# Altium schematic symbol library 09_Connector.SchLib: 62 symbols
Pins are listed as number, name and electrical type; pins without a type are passive.

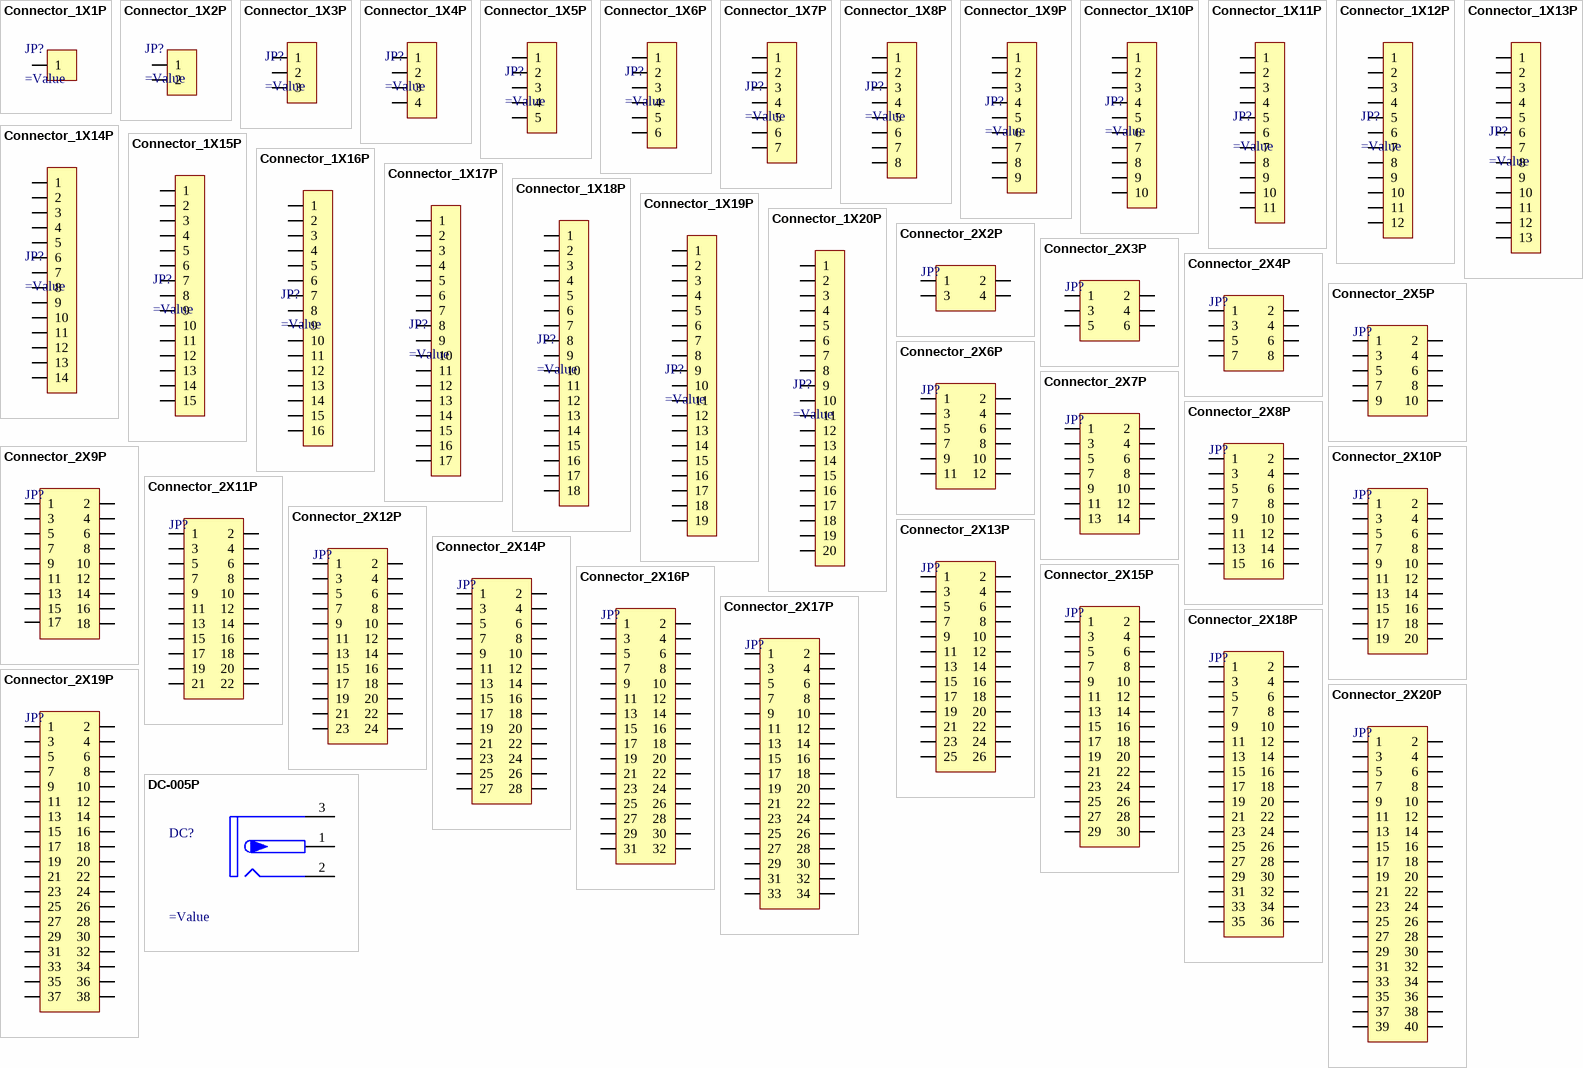
[diagram p0: symbols Connector_1X1P to DC-005P]

## Connector_1X1P
designator JP?
1X1P连接器（排针、排母、接线端子）
pins: 1

## Connector_1X2P
designator JP?
1X2P连接器（排针、排母、接线端子）
pins: 1, 2

## Connector_1X3P
designator JP?
1X3P连接器（排针、排母、接线端子）
pins: 1, 2, 3

## Connector_1X4P
designator JP?
1X4P连接器（排针、排母、接线端子）
pins: 1, 2, 3, 4

## Connector_1X5P
designator JP?
1X5P连接器（排针、排母、接线端子）
pins: 1, 2, 3, 4, 5

## Connector_1X6P
designator JP?
1X6P连接器（排针、排母、接线端子）
pins: 1, 2, 3, 4, 5, 6

## Connector_1X7P
designator JP?
1X7P连接器（排针、排母、接线端子）
pins: 1, 2, 3, 4, 5, 6, 7

## Connector_1X8P
designator JP?
1X8P连接器（排针、排母、接线端子）
pins: 1, 2, 3, 4, 5, 6, 7, 8

## Connector_1X9P
designator JP?
1X9P连接器（排针、排母、接线端子）
pins: 1, 2, 3, 4, 5, 6, 7, 8, 9

## Connector_1X10P
designator JP?
1X10P连接器（排针、排母、接线端子）
pins: 1, 2, 3, 4, 5, 6, 7, 8, 9, 10

## Connector_1X11P
designator JP?
1X11P连接器（排针、排母、接线端子）
pins: 1, 2, 3, 4, 5, 6, 7, 8, 9, 10, 11

## Connector_1X12P
designator JP?
1X12P连接器（排针、排母、接线端子）
pins: 1, 2, 3, 4, 5, 6, 7, 8, 9, 10, 11, 12

## Connector_1X13P
designator JP?
1X13P连接器（排针、排母、接线端子）
pins: 1, 2, 3, 4, 5, 6, 7, 8, 9, 10, 11, 12, 13

## Connector_1X14P
designator JP?
1X14P连接器（排针、排母、接线端子）
pins: 1, 2, 3, 4, 5, 6, 7, 8, 9, 10, 11, 12, 13, 14

## Connector_1X15P
designator JP?
1X15P连接器（排针、排母、接线端子）
pins: 1, 2, 3, 4, 5, 6, 7, 8, 9, 10, 11, 12, 13, 14, 15

## Connector_1X16P
designator JP?
1X16P连接器（排针、排母、接线端子）
pins: 1, 2, 3, 4, 5, 6, 7, 8, 9, 10, 11, 12, 13, 14, 15, 16

## Connector_1X17P
designator JP?
1X17P连接器（排针、排母、接线端子）
pins: 1, 2, 3, 4, 5, 6, 7, 8, 9, 10, 11, 12, 13, 14, 15, 16, 17

## Connector_1X18P
designator JP?
1X18P连接器（排针、排母、接线端子）
pins: 1, 2, 3, 4, 5, 6, 7, 8, 9, 10, 11, 12, 13, 14, 15, 16, 17, 18

## Connector_1X19P
designator JP?
1X19P连接器（排针、排母、接线端子）
pins: 1, 2, 3, 4, 5, 6, 7, 8, 9, 10, 11, 12, 13, 14, 15, 16, 17, 18, 19

## Connector_1X20P
designator JP?
1X20P连接器（排针、排母、接线端子）
pins: 1, 2, 3, 4, 5, 6, 7, 8, 9, 10, 11, 12, 13, 14, 15, 16, 17, 18, 19, 20

## Connector_2X2P
designator JP?
2X2P连接器（排针、排母、接线端子）
pins: 1, 2, 3, 4

## Connector_2X3P
designator JP?
2X3P连接器（排针、排母、接线端子）
pins: 1, 2, 3, 4, 5, 6

## Connector_2X4P
designator JP?
2X4P连接器（排针、排母、接线端子）
pins: 1, 2, 3, 4, 5, 6, 7, 8

## Connector_2X5P
designator JP?
2X5P连接器（排针、排母、接线端子）
pins: 1, 2, 3, 4, 5, 6, 7, 8, 9, 10

## Connector_2X6P
designator JP?
2X6P连接器（排针、排母、接线端子）
pins: 1, 2, 3, 4, 5, 6, 7, 8, 9, 10, 11, 12

## Connector_2X7P
designator JP?
2X7P连接器（排针、排母、接线端子）
pins: 1, 2, 3, 4, 5, 6, 7, 8, 9, 10, 11, 12, 13, 14

## Connector_2X8P
designator JP?
2X8P连接器（排针、排母、接线端子）
pins: 1, 2, 3, 4, 5, 6, 7, 8, 9, 10, 11, 12, 13, 14, 15, 16

## Connector_2X9P
designator JP?
2X9P连接器（排针、排母、接线端子）
pins: 1, 2, 3, 4, 5, 6, 7, 8, 9, 10, 11, 12, 13, 14, 15, 16, 17, 18

## Connector_2X10P
designator JP?
2X10P连接器（排针、排母、接线端子）
pins: 1, 2, 3, 4, 5, 6, 7, 8, 9, 10, 11, 12, 13, 14, 15, 16, 17, 18, 19, 20

## Connector_2X11P
designator JP?
2X11P连接器（排针、排母、接线端子）
pins: 1, 2, 3, 4, 5, 6, 7, 8, 9, 10, 11, 12, 13, 14, 15, 16, 17, 18, 19, 20, 21, 22

## Connector_2X12P
designator JP?
2X12P连接器（排针、排母、接线端子）
pins: 1, 2, 3, 4, 5, 6, 7, 8, 9, 10, 11, 12, 13, 14, 15, 16, 17, 18, 19, 20, 21, 22, 23, 24

## Connector_2X13P
designator JP?
2X13P连接器（排针、排母、接线端子）
pins: 1, 2, 3, 4, 5, 6, 7, 8, 9, 10, 11, 12, 13, 14, 15, 16, 17, 18, 19, 20, 21, 22, 23, 24, 25, 26

## Connector_2X14P
designator JP?
2X14P连接器（排针、排母、接线端子）
pins: 1, 2, 3, 4, 5, 6, 7, 8, 9, 10, 11, 12, 13, 14, 15, 16, 17, 18, 19, 20, 21, 22, 23, 24, 25, 26, 27, 28

## Connector_2X15P
designator JP?
2X15P连接器（排针、排母、接线端子）
pins: 1, 2, 3, 4, 5, 6, 7, 8, 9, 10, 11, 12, 13, 14, 15, 16, 17, 18, 19, 20, 21, 22, 23, 24, 25, 26, 27, 28, 29, 30

## Connector_2X16P
designator JP?
2X16P连接器（排针、排母、接线端子）
pins: 1, 2, 3, 4, 5, 6, 7, 8, 9, 10, 11, 12, 13, 14, 15, 16, 17, 18, 19, 20, 21, 22, 23, 24, 25, 26, 27, 28, 29, 30, 31, 32

## Connector_2X17P
designator JP?
2X17P连接器（排针、排母、接线端子）
pins: 1, 2, 3, 4, 5, 6, 7, 8, 9, 10, 11, 12, 13, 14, 15, 16, 17, 18, 19, 20, 21, 22, 23, 24, 25, 26, 27, 28, 29, 30, 31, 32, 33, 34

## Connector_2X18P
designator JP?
2X18P连接器（排针、排母、接线端子）
pins: 1, 2, 3, 4, 5, 6, 7, 8, 9, 10, 11, 12, 13, 14, 15, 16, 17, 18, 19, 20, 21, 22, 23, 24, 25, 26, 27, 28, 29, 30, 31, 32, 33, 34, 35, 36

## Connector_2X19P
designator JP?
2X19P连接器（排针、排母、接线端子）
pins: 1, 2, 3, 4, 5, 6, 7, 8, 9, 10, 11, 12, 13, 14, 15, 16, 17, 18, 19, 20, 21, 22, 23, 24, 25, 26, 27, 28, 29, 30, 31, 32, 33, 34, 35, 36, 37, 38

## Connector_2X20P
designator JP?
2X20P连接器（排针、排母、接线端子）
pins: 1, 2, 3, 4, 5, 6, 7, 8, 9, 10, 11, 12, 13, 14, 15, 16, 17, 18, 19, 20, 21, 22, 23, 24, 25, 26, 27, 28, 29, 30, 31, 32, 33, 34, 35, 36, 37, 38, 39, 40

## DC-005P
designator DC?
DC-005电源接口座
pins: 1 (power), 2 (power), 3 (power)

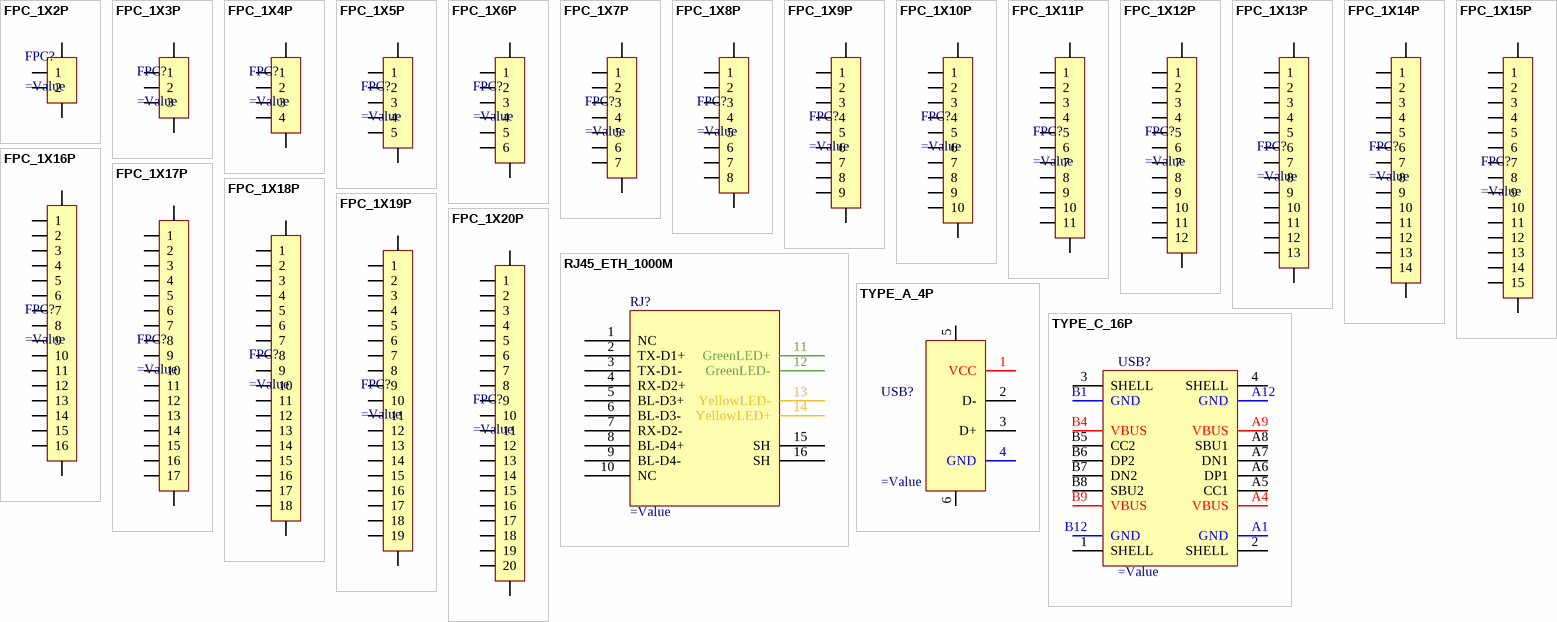
[diagram p1: symbols FPC_1X2P to TYPE_C_16P]

## FPC_1X2P
designator FPC?
1X2P-FPC连接器
pins: 0, 0, 1, 2

## FPC_1X3P
designator FPC?
1X3P-FPC连接器
pins: 0, 0, 1, 2, 3

## FPC_1X4P
designator FPC?
1X4P-FPC连接器
pins: 0, 0, 1, 2, 3, 4

## FPC_1X5P
designator FPC?
1X5P-FPC连接器
pins: 0, 0, 1, 2, 3, 4, 5

## FPC_1X6P
designator FPC?
1X6P-FPC连接器
pins: 0, 0, 1, 2, 3, 4, 5, 6

## FPC_1X7P
designator FPC?
1X7P-FPC连接器
pins: 0, 0, 1, 2, 3, 4, 5, 6, 7

## FPC_1X8P
designator FPC?
1X8P-FPC连接器
pins: 0, 0, 1, 2, 3, 4, 5, 6, 7, 8

## FPC_1X9P
designator FPC?
1X9P-FPC连接器
pins: 0, 0, 1, 2, 3, 4, 5, 6, 7, 8, 9

## FPC_1X10P
designator FPC?
1X10P-FPC连接器
pins: 0, 0, 1, 2, 3, 4, 5, 6, 7, 8, 9, 10

## FPC_1X11P
designator FPC?
1X11P-FPC连接器
pins: 0, 0, 1, 2, 3, 4, 5, 6, 7, 8, 9, 10, 11

## FPC_1X12P
designator FPC?
1X12P-FPC连接器
pins: 0, 0, 1, 2, 3, 4, 5, 6, 7, 8, 9, 10, 11, 12

## FPC_1X13P
designator FPC?
1X13P-FPC连接器
pins: 0, 0, 1, 2, 3, 4, 5, 6, 7, 8, 9, 10, 11, 12, 13

## FPC_1X14P
designator FPC?
1X14P-FPC连接器
pins: 0, 0, 1, 2, 3, 4, 5, 6, 7, 8, 9, 10, 11, 12, 13, 14

## FPC_1X15P
designator FPC?
1X15P-FPC连接器
pins: 0, 0, 1, 2, 3, 4, 5, 6, 7, 8, 9, 10, 11, 12, 13, 14, 15

## FPC_1X16P
designator FPC?
1X16P-FPC连接器
pins: 0, 0, 1, 2, 3, 4, 5, 6, 7, 8, 9, 10, 11, 12, 13, 14, 15, 16

## FPC_1X17P
designator FPC?
1X17P-FPC连接器
pins: 0, 0, 1, 2, 3, 4, 5, 6, 7, 8, 9, 10, 11, 12, 13, 14, 15, 16, 17

## FPC_1X18P
designator FPC?
1X18P-FPC连接器
pins: 0, 0, 1, 2, 3, 4, 5, 6, 7, 8, 9, 10, 11, 12, 13, 14, 15, 16, 17, 18

## FPC_1X19P
designator FPC?
1X19P-FPC连接器
pins: 0, 0, 1, 2, 3, 4, 5, 6, 7, 8, 9, 10, 11, 12, 13, 14, 15, 16, 17, 18, 19

## FPC_1X20P
designator FPC?
1X20P-FPC连接器
pins: 0, 0, 1, 2, 3, 4, 5, 6, 7, 8, 9, 10, 11, 12, 13, 14, 15, 16, 17, 18, 19, 20

## RJ45_ETH_1000M
designator RJ?
RJ45接口/千兆以太网接口-公座or母座
pins: 1 NC, 2 TX-D1+, 3 TX-D1-, 4 RX-D2+, 5 BL-D3+, 6 BL-D3-, 7 RX-D2-, 8 BL-D4+, 9 BL-D4-, 10 NC, 11 GreenLED+, 12 GreenLED-, 13 YellowLED-, 14 YellowLED+, 15 SH, 16 SH

## TYPE_A_4P
designator USB?
USB连接器-TYPE-A-4Pin/公座or母座
pins: 1 VCC, 2 D-, 3 D+, 4 GND, 5 GND, 6 GND

## TYPE_C_16P
designator USB?
USB连接器-TYPE-C-16Pin/公座or母座
pins: 1 SHELL, 2 SHELL, 3 SHELL, 4 SHELL, A1 GND, A4 VBUS, A5 CC1, A6 DP1, A7 DN1, A8 SBU1, A9 VBUS, A12 GND, B1 GND, B4 VBUS, B5 CC2, B6 DP2, B7 DN2, B8 SBU2, B9 VBUS, B12 GND